# Altium integrated library National Semiconductor LDO.IntLib: 2675 symbols (part 54 of 65)
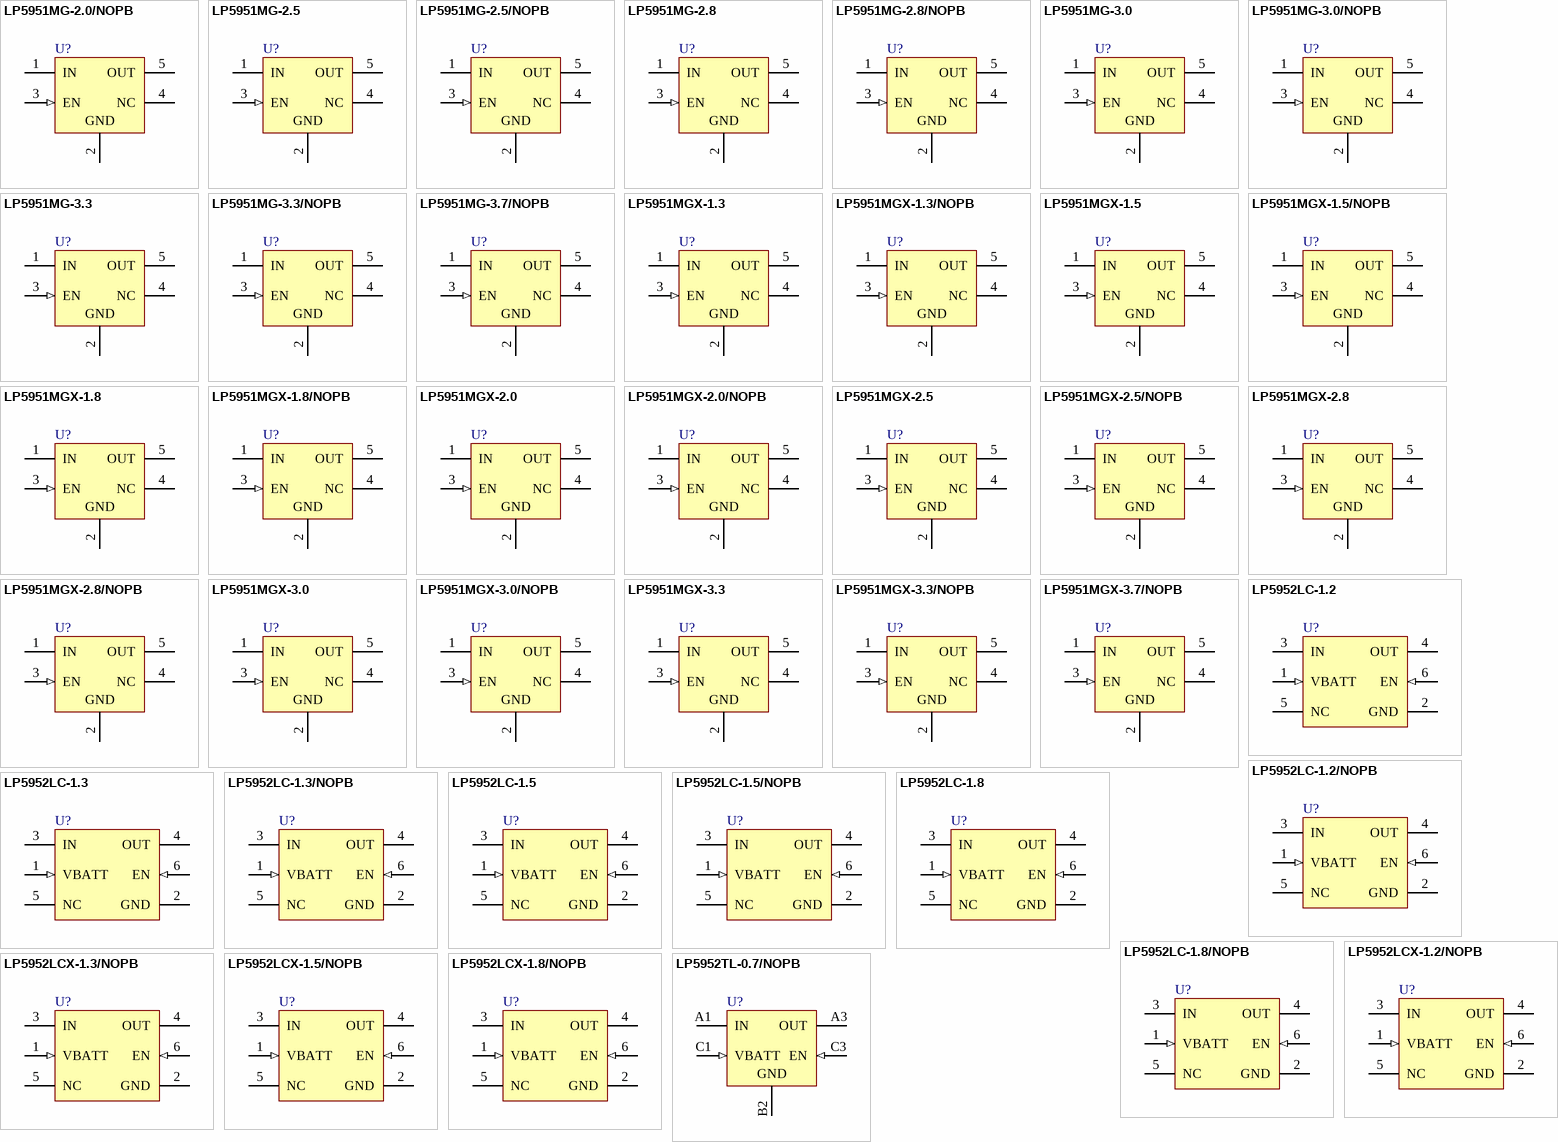
[diagram p120: symbols LP5951MG-2.0/NOPB to LP5952TL-0.7/NOPB]

## LP5951MGX-2.0/NOPB
designator U?
Micropower, 150mA Low-Dropout CMOS Voltage Regulator, 5-pin SC-70, Pb-Free; PartNumber: LP5951MGX-2.0/NOPB; Manufacturer: National Semiconductor; PackageTopMarking: L4B*XTT; PowerWise: N; CompType: LDO IC; High-Reliability: Y; DatasheetVersion: Jan-2011; PackageVersion: revD, Jun-2007; PackageReference: MAA05A; PackageDescription: Molded SC-70, 2 x 1.25 x .9mm, 5 Lead, 0.65mm Pitch; RoHS: Y; PinCount: 5; Code_JEITA: SC-88A; Code_JEDEC: MO-203-AA; Code_IPC: SOT353-5; ComponentLink1Description: Manufacturer URL; ComponentLink1URL: http://www.national.com/; ComponentLink2Description: LP5951 Datasheet; ComponentLink2URL: http://www.national.com/ds/LP/LP5951.pdf; ComponentLink3Description: LP5951 Web Page; ComponentLink3URL: http://www.national.com/pf/LP/LP5951.html; ComponentLink4Description: MAA05A Package Page; ComponentLink4URL: http://www.national.com/packaging/folders/maa05a.html
footprint MAA05A_N (SOT353, 5-Leads, Body 2x1.3mm, Pitch 0.65mm, Lead Span 2.1mm, IPC Medium Density)
footprint MAA05A_L (SOT353, 5-Leads, Body 2x1.3mm, Pitch 0.65mm, Lead Span 2.1mm, IPC High Density)
footprint MAA05A_M (SOT353, 5-Leads, Body 2x1.3mm, Pitch 0.65mm, Lead Span 2.1mm, IPC Low Density)
pins: 1 IN (power), 2 GND (power), 3 EN (in), 4 NC, 5 OUT (power)

## LP5951MGX-2.5
designator U?
Micropower, 150mA Low-Dropout CMOS Voltage Regulator, 5-pin SC-70; PartNumber: LP5951MGX-2.5; Manufacturer: National Semiconductor; PackageTopMarking: L5B*XTT; PowerWise: N; CompType: LDO IC; High-Reliability: Y; DatasheetVersion: Jan-2011; PackageVersion: revD, Jun-2007; PackageReference: MAA05A; PackageDescription: Molded SC-70, 2 x 1.25 x .9mm, 5 Lead, 0.65mm Pitch; RoHS: N; PinCount: 5; Code_JEITA: SC-88A; Code_JEDEC: MO-203-AA; Code_IPC: SOT353-5; ComponentLink1Description: Manufacturer URL; ComponentLink1URL: http://www.national.com/; ComponentLink2Description: LP5951 Datasheet; ComponentLink2URL: http://www.national.com/ds/LP/LP5951.pdf; ComponentLink3Description: LP5951 Web Page; ComponentLink3URL: http://www.national.com/pf/LP/LP5951.html; ComponentLink4Description: MAA05A Package Page; ComponentLink4URL: http://www.national.com/packaging/folders/maa05a.html
footprint MAA05A_N (SOT353, 5-Leads, Body 2x1.3mm, Pitch 0.65mm, Lead Span 2.1mm, IPC Medium Density)
footprint MAA05A_L (SOT353, 5-Leads, Body 2x1.3mm, Pitch 0.65mm, Lead Span 2.1mm, IPC High Density)
footprint MAA05A_M (SOT353, 5-Leads, Body 2x1.3mm, Pitch 0.65mm, Lead Span 2.1mm, IPC Low Density)
pins: 1 IN (power), 2 GND (power), 3 EN (in), 4 NC, 5 OUT (power)

## LP5951MGX-2.5/NOPB
designator U?
Micropower, 150mA Low-Dropout CMOS Voltage Regulator, 5-pin SC-70, Pb-Free; PartNumber: LP5951MGX-2.5/NOPB; Manufacturer: National Semiconductor; PackageTopMarking: L5B*XTT; PowerWise: N; CompType: LDO IC; High-Reliability: Y; DatasheetVersion: Jan-2011; PackageVersion: revD, Jun-2007; PackageReference: MAA05A; PackageDescription: Molded SC-70, 2 x 1.25 x .9mm, 5 Lead, 0.65mm Pitch; RoHS: Y; PinCount: 5; Code_JEITA: SC-88A; Code_JEDEC: MO-203-AA; Code_IPC: SOT353-5; ComponentLink1Description: Manufacturer URL; ComponentLink1URL: http://www.national.com/; ComponentLink2Description: LP5951 Datasheet; ComponentLink2URL: http://www.national.com/ds/LP/LP5951.pdf; ComponentLink3Description: LP5951 Web Page; ComponentLink3URL: http://www.national.com/pf/LP/LP5951.html; ComponentLink4Description: MAA05A Package Page; ComponentLink4URL: http://www.national.com/packaging/folders/maa05a.html
footprint MAA05A_N (SOT353, 5-Leads, Body 2x1.3mm, Pitch 0.65mm, Lead Span 2.1mm, IPC Medium Density)
footprint MAA05A_L (SOT353, 5-Leads, Body 2x1.3mm, Pitch 0.65mm, Lead Span 2.1mm, IPC High Density)
footprint MAA05A_M (SOT353, 5-Leads, Body 2x1.3mm, Pitch 0.65mm, Lead Span 2.1mm, IPC Low Density)
pins: 1 IN (power), 2 GND (power), 3 EN (in), 4 NC, 5 OUT (power)

## LP5951MGX-2.8
designator U?
Micropower, 150mA Low-Dropout CMOS Voltage Regulator, 5-pin SC-70; PartNumber: LP5951MGX-2.8; Manufacturer: National Semiconductor; PackageTopMarking: L6B*XTT; PowerWise: N; CompType: LDO IC; High-Reliability: Y; DatasheetVersion: Jan-2011; PackageVersion: revD, Jun-2007; PackageReference: MAA05A; PackageDescription: Molded SC-70, 2 x 1.25 x .9mm, 5 Lead, 0.65mm Pitch; RoHS: N; PinCount: 5; Code_JEITA: SC-88A; Code_JEDEC: MO-203-AA; Code_IPC: SOT353-5; ComponentLink1Description: Manufacturer URL; ComponentLink1URL: http://www.national.com/; ComponentLink2Description: LP5951 Datasheet; ComponentLink2URL: http://www.national.com/ds/LP/LP5951.pdf; ComponentLink3Description: LP5951 Web Page; ComponentLink3URL: http://www.national.com/pf/LP/LP5951.html; ComponentLink4Description: MAA05A Package Page; ComponentLink4URL: http://www.national.com/packaging/folders/maa05a.html
footprint MAA05A_N (SOT353, 5-Leads, Body 2x1.3mm, Pitch 0.65mm, Lead Span 2.1mm, IPC Medium Density)
footprint MAA05A_L (SOT353, 5-Leads, Body 2x1.3mm, Pitch 0.65mm, Lead Span 2.1mm, IPC High Density)
footprint MAA05A_M (SOT353, 5-Leads, Body 2x1.3mm, Pitch 0.65mm, Lead Span 2.1mm, IPC Low Density)
pins: 1 IN (power), 2 GND (power), 3 EN (in), 4 NC, 5 OUT (power)

## LP5951MGX-2.8/NOPB
designator U?
Micropower, 150mA Low-Dropout CMOS Voltage Regulator, 5-pin SC-70, Pb-Free; PartNumber: LP5951MGX-2.8/NOPB; Manufacturer: National Semiconductor; PackageTopMarking: L6B*XTT; PowerWise: N; CompType: LDO IC; High-Reliability: Y; DatasheetVersion: Jan-2011; PackageVersion: revD, Jun-2007; PackageReference: MAA05A; PackageDescription: Molded SC-70, 2 x 1.25 x .9mm, 5 Lead, 0.65mm Pitch; RoHS: Y; PinCount: 5; Code_JEITA: SC-88A; Code_JEDEC: MO-203-AA; Code_IPC: SOT353-5; ComponentLink1Description: Manufacturer URL; ComponentLink1URL: http://www.national.com/; ComponentLink2Description: LP5951 Datasheet; ComponentLink2URL: http://www.national.com/ds/LP/LP5951.pdf; ComponentLink3Description: LP5951 Web Page; ComponentLink3URL: http://www.national.com/pf/LP/LP5951.html; ComponentLink4Description: MAA05A Package Page; ComponentLink4URL: http://www.national.com/packaging/folders/maa05a.html
footprint MAA05A_N (SOT353, 5-Leads, Body 2x1.3mm, Pitch 0.65mm, Lead Span 2.1mm, IPC Medium Density)
footprint MAA05A_L (SOT353, 5-Leads, Body 2x1.3mm, Pitch 0.65mm, Lead Span 2.1mm, IPC High Density)
footprint MAA05A_M (SOT353, 5-Leads, Body 2x1.3mm, Pitch 0.65mm, Lead Span 2.1mm, IPC Low Density)
pins: 1 IN (power), 2 GND (power), 3 EN (in), 4 NC, 5 OUT (power)

## LP5951MGX-3.0
designator U?
Micropower, 150mA Low-Dropout CMOS Voltage Regulator, 5-pin SC-70; PartNumber: LP5951MGX-3.0; Manufacturer: National Semiconductor; PackageTopMarking: L7B*XTT; PowerWise: N; CompType: LDO IC; High-Reliability: Y; DatasheetVersion: Jan-2011; PackageVersion: revD, Jun-2007; PackageReference: MAA05A; PackageDescription: Molded SC-70, 2 x 1.25 x .9mm, 5 Lead, 0.65mm Pitch; RoHS: N; PinCount: 5; Code_JEITA: SC-88A; Code_JEDEC: MO-203-AA; Code_IPC: SOT353-5; ComponentLink1Description: Manufacturer URL; ComponentLink1URL: http://www.national.com/; ComponentLink2Description: LP5951 Datasheet; ComponentLink2URL: http://www.national.com/ds/LP/LP5951.pdf; ComponentLink3Description: LP5951 Web Page; ComponentLink3URL: http://www.national.com/pf/LP/LP5951.html; ComponentLink4Description: MAA05A Package Page; ComponentLink4URL: http://www.national.com/packaging/folders/maa05a.html
footprint MAA05A_N (SOT353, 5-Leads, Body 2x1.3mm, Pitch 0.65mm, Lead Span 2.1mm, IPC Medium Density)
footprint MAA05A_L (SOT353, 5-Leads, Body 2x1.3mm, Pitch 0.65mm, Lead Span 2.1mm, IPC High Density)
footprint MAA05A_M (SOT353, 5-Leads, Body 2x1.3mm, Pitch 0.65mm, Lead Span 2.1mm, IPC Low Density)
pins: 1 IN (power), 2 GND (power), 3 EN (in), 4 NC, 5 OUT (power)

## LP5951MGX-3.0/NOPB
designator U?
Micropower, 150mA Low-Dropout CMOS Voltage Regulator, 5-pin SC-70, Pb-Free; PartNumber: LP5951MGX-3.0/NOPB; Manufacturer: National Semiconductor; PackageTopMarking: L7B*XTT; PowerWise: N; CompType: LDO IC; High-Reliability: Y; DatasheetVersion: Jan-2011; PackageVersion: revD, Jun-2007; PackageReference: MAA05A; PackageDescription: Molded SC-70, 2 x 1.25 x .9mm, 5 Lead, 0.65mm Pitch; RoHS: Y; PinCount: 5; Code_JEITA: SC-88A; Code_JEDEC: MO-203-AA; Code_IPC: SOT353-5; ComponentLink1Description: Manufacturer URL; ComponentLink1URL: http://www.national.com/; ComponentLink2Description: LP5951 Datasheet; ComponentLink2URL: http://www.national.com/ds/LP/LP5951.pdf; ComponentLink3Description: LP5951 Web Page; ComponentLink3URL: http://www.national.com/pf/LP/LP5951.html; ComponentLink4Description: MAA05A Package Page; ComponentLink4URL: http://www.national.com/packaging/folders/maa05a.html
footprint MAA05A_N (SOT353, 5-Leads, Body 2x1.3mm, Pitch 0.65mm, Lead Span 2.1mm, IPC Medium Density)
footprint MAA05A_L (SOT353, 5-Leads, Body 2x1.3mm, Pitch 0.65mm, Lead Span 2.1mm, IPC High Density)
footprint MAA05A_M (SOT353, 5-Leads, Body 2x1.3mm, Pitch 0.65mm, Lead Span 2.1mm, IPC Low Density)
pins: 1 IN (power), 2 GND (power), 3 EN (in), 4 NC, 5 OUT (power)

## LP5951MGX-3.3
designator U?
Micropower, 150mA Low-Dropout CMOS Voltage Regulator, 5-pin SC-70; PartNumber: LP5951MGX-3.3; Manufacturer: National Semiconductor; PackageTopMarking: LAB*XTT; PowerWise: N; CompType: LDO IC; High-Reliability: Y; DatasheetVersion: Jan-2011; PackageVersion: revD, Jun-2007; PackageReference: MAA05A; PackageDescription: Molded SC-70, 2 x 1.25 x .9mm, 5 Lead, 0.65mm Pitch; RoHS: N; PinCount: 5; Code_JEITA: SC-88A; Code_JEDEC: MO-203-AA; Code_IPC: SOT353-5; ComponentLink1Description: Manufacturer URL; ComponentLink1URL: http://www.national.com/; ComponentLink2Description: LP5951 Datasheet; ComponentLink2URL: http://www.national.com/ds/LP/LP5951.pdf; ComponentLink3Description: LP5951 Web Page; ComponentLink3URL: http://www.national.com/pf/LP/LP5951.html; ComponentLink4Description: MAA05A Package Page; ComponentLink4URL: http://www.national.com/packaging/folders/maa05a.html
footprint MAA05A_N (SOT353, 5-Leads, Body 2x1.3mm, Pitch 0.65mm, Lead Span 2.1mm, IPC Medium Density)
footprint MAA05A_L (SOT353, 5-Leads, Body 2x1.3mm, Pitch 0.65mm, Lead Span 2.1mm, IPC High Density)
footprint MAA05A_M (SOT353, 5-Leads, Body 2x1.3mm, Pitch 0.65mm, Lead Span 2.1mm, IPC Low Density)
pins: 1 IN (power), 2 GND (power), 3 EN (in), 4 NC, 5 OUT (power)

## LP5951MGX-3.3/NOPB
designator U?
Micropower, 150mA Low-Dropout CMOS Voltage Regulator, 5-pin SC-70, Pb-Free; PartNumber: LP5951MGX-3.3/NOPB; Manufacturer: National Semiconductor; PackageTopMarking: LAB*XTT; PowerWise: N; CompType: LDO IC; High-Reliability: Y; DatasheetVersion: Jan-2011; PackageVersion: revD, Jun-2007; PackageReference: MAA05A; PackageDescription: Molded SC-70, 2 x 1.25 x .9mm, 5 Lead, 0.65mm Pitch; RoHS: Y; PinCount: 5; Code_JEITA: SC-88A; Code_JEDEC: MO-203-AA; Code_IPC: SOT353-5; ComponentLink1Description: Manufacturer URL; ComponentLink1URL: http://www.national.com/; ComponentLink2Description: LP5951 Datasheet; ComponentLink2URL: http://www.national.com/ds/LP/LP5951.pdf; ComponentLink3Description: LP5951 Web Page; ComponentLink3URL: http://www.national.com/pf/LP/LP5951.html; ComponentLink4Description: MAA05A Package Page; ComponentLink4URL: http://www.national.com/packaging/folders/maa05a.html
footprint MAA05A_N (SOT353, 5-Leads, Body 2x1.3mm, Pitch 0.65mm, Lead Span 2.1mm, IPC Medium Density)
footprint MAA05A_L (SOT353, 5-Leads, Body 2x1.3mm, Pitch 0.65mm, Lead Span 2.1mm, IPC High Density)
footprint MAA05A_M (SOT353, 5-Leads, Body 2x1.3mm, Pitch 0.65mm, Lead Span 2.1mm, IPC Low Density)
pins: 1 IN (power), 2 GND (power), 3 EN (in), 4 NC, 5 OUT (power)

## LP5951MGX-3.7/NOPB
designator U?
Micropower, 150mA Low-Dropout CMOS Voltage Regulator, 3.7V, 5-pin SC-70, Pb-Free, 3000 Tape and Reel; PartNumber: LP5951MGX-3.7/NOPB; Manufacturer: National Semiconductor; PackageTopMarking: L44*XTT; PowerWise: N; CompType: LDO IC; High-Reliability: Y; DatasheetVersion: Jan-2011; PackageVersion: revD, Jun-2007; PackageReference: MAA05A; PackageDescription: Molded SC-70, 2 x 1.25 x .9mm, 5 Lead, 0.65mm Pitch; RoHS: Y; PinCount: 5; Code_JEITA: SC-88A; Code_JEDEC: MO-203-AA; Code_IPC: SOT353-5; ComponentLink1Description: Manufacturer URL; ComponentLink1URL: http://www.national.com/; ComponentLink2Description: LP5951 Datasheet; ComponentLink2URL: http://www.national.com/ds/LP/LP5951.pdf; ComponentLink3Description: LP5951 Web Page; ComponentLink3URL: http://www.national.com/pf/LP/LP5951.html; ComponentLink4Description: MAA05A Package Page; ComponentLink4URL: http://www.national.com/packaging/folders/maa05a.html
footprint MAA05A_N (SOT353, 5-Leads, Body 2x1.3mm, Pitch 0.65mm, Lead Span 2.1mm, IPC Medium Density)
footprint MAA05A_L (SOT353, 5-Leads, Body 2x1.3mm, Pitch 0.65mm, Lead Span 2.1mm, IPC High Density)
footprint MAA05A_M (SOT353, 5-Leads, Body 2x1.3mm, Pitch 0.65mm, Lead Span 2.1mm, IPC Low Density)
pins: 1 IN (power), 2 GND (power), 3 EN (in), 4 NC, 5 OUT (power)

## LP5952LC-1.2
designator U?
350mA Dual Rail Linear Regulator, 6-pin LLP COL; PartNumber: LP5952LC-1.2; Manufacturer: National Semiconductor; PackageTopMarking: XTT*L28; PowerWise: Y; CompType: LDO IC; DatasheetVersion: Jun-2008; PackageVersion: revA, Oct-2006; PackageReference: LCA06B; PackageDescription: LLP, 2 x 2 x 0.6mm, 6 Lead, 0.5mm Pitch, No Pullback; RoHS: Y; PinCount: 6; High-Reliability: Y; ComponentLink1Description: Manufacturer URL; ComponentLink1URL: http://www.national.com/; ComponentLink2Description: LP5952 Datasheet; ComponentLink2URL: http://www.national.com/ds/LP/LP5952.pdf; ComponentLink3Description: LP5952 Web Page; ComponentLink3URL: http://www.national.com/pf/LP/LP5952.html; ComponentLink4Description: LCA06B Package Page; ComponentLink4URL: http://www.national.com/packaging/folders/lca06b.html
footprint LCA06B (SON, 6-Leads, Body 2x2mm, Pitch 0.5mm, NSC Recommended)
pins: 1 VBATT (in), 2 GND (power), 3 IN (power), 4 OUT (power), 5 NC, 6 EN (in)

## LP5952LC-1.2/NOPB
designator U?
350mA Dual Rail Linear Regulator, 6-pin LLP COL, Pb-Free; PartNumber: LP5952LC-1.2/NOPB; Manufacturer: National Semiconductor; PackageTopMarking: XTT*L28; PowerWise: Y; CompType: LDO IC; DatasheetVersion: Jun-2008; PackageVersion: revA, Oct-2006; PackageReference: LCA06B; PackageDescription: LLP, 2 x 2 x 0.6mm, 6 Lead, 0.5mm Pitch, No Pullback; RoHS: Y; PinCount: 6; High-Reliability: Y; ComponentLink1Description: Manufacturer URL; ComponentLink1URL: http://www.national.com/; ComponentLink2Description: LP5952 Datasheet; ComponentLink2URL: http://www.national.com/ds/LP/LP5952.pdf; ComponentLink3Description: LP5952 Web Page; ComponentLink3URL: http://www.national.com/pf/LP/LP5952.html; ComponentLink4Description: LCA06B Package Page; ComponentLink4URL: http://www.national.com/packaging/folders/lca06b.html
footprint LCA06B (SON, 6-Leads, Body 2x2mm, Pitch 0.5mm, NSC Recommended)
pins: 1 VBATT (in), 2 GND (power), 3 IN (power), 4 OUT (power), 5 NC, 6 EN (in)

## LP5952LC-1.3
designator U?
350mA Dual Rail Linear Regulator, 6-pin LLP COL; PartNumber: LP5952LC-1.3; Manufacturer: National Semiconductor; PackageTopMarking: XTT*L43; PowerWise: Y; CompType: LDO IC; DatasheetVersion: Jun-2008; PackageVersion: revA, Oct-2006; PackageReference: LCA06B; PackageDescription: LLP, 2 x 2 x 0.6mm, 6 Lead, 0.5mm Pitch, No Pullback; RoHS: Y; PinCount: 6; High-Reliability: Y; ComponentLink1Description: Manufacturer URL; ComponentLink1URL: http://www.national.com/; ComponentLink2Description: LP5952 Datasheet; ComponentLink2URL: http://www.national.com/ds/LP/LP5952.pdf; ComponentLink3Description: LP5952 Web Page; ComponentLink3URL: http://www.national.com/pf/LP/LP5952.html; ComponentLink4Description: LCA06B Package Page; ComponentLink4URL: http://www.national.com/packaging/folders/lca06b.html
footprint LCA06B (SON, 6-Leads, Body 2x2mm, Pitch 0.5mm, NSC Recommended)
pins: 1 VBATT (in), 2 GND (power), 3 IN (power), 4 OUT (power), 5 NC, 6 EN (in)

## LP5952LC-1.3/NOPB
designator U?
350mA Dual Rail Linear Regulator, 6-pin LLP COL, Pb-Free; PartNumber: LP5952LC-1.3/NOPB; Manufacturer: National Semiconductor; PackageTopMarking: XTT*L43; PowerWise: Y; CompType: LDO IC; DatasheetVersion: Jun-2008; PackageVersion: revA, Oct-2006; PackageReference: LCA06B; PackageDescription: LLP, 2 x 2 x 0.6mm, 6 Lead, 0.5mm Pitch, No Pullback; RoHS: Y; PinCount: 6; High-Reliability: Y; ComponentLink1Description: Manufacturer URL; ComponentLink1URL: http://www.national.com/; ComponentLink2Description: LP5952 Datasheet; ComponentLink2URL: http://www.national.com/ds/LP/LP5952.pdf; ComponentLink3Description: LP5952 Web Page; ComponentLink3URL: http://www.national.com/pf/LP/LP5952.html; ComponentLink4Description: LCA06B Package Page; ComponentLink4URL: http://www.national.com/packaging/folders/lca06b.html
footprint LCA06B (SON, 6-Leads, Body 2x2mm, Pitch 0.5mm, NSC Recommended)
pins: 1 VBATT (in), 2 GND (power), 3 IN (power), 4 OUT (power), 5 NC, 6 EN (in)

## LP5952LC-1.5
designator U?
350mA Dual Rail Linear Regulator, 6-pin LLP COL; PartNumber: LP5952LC-1.5; Manufacturer: National Semiconductor; PackageTopMarking: XTT*L25; PowerWise: Y; CompType: LDO IC; DatasheetVersion: Jun-2008; PackageVersion: revA, Oct-2006; PackageReference: LCA06B; PackageDescription: LLP, 2 x 2 x 0.6mm, 6 Lead, 0.5mm Pitch, No Pullback; RoHS: Y; PinCount: 6; High-Reliability: Y; ComponentLink1Description: Manufacturer URL; ComponentLink1URL: http://www.national.com/; ComponentLink2Description: LP5952 Datasheet; ComponentLink2URL: http://www.national.com/ds/LP/LP5952.pdf; ComponentLink3Description: LP5952 Web Page; ComponentLink3URL: http://www.national.com/pf/LP/LP5952.html; ComponentLink4Description: LCA06B Package Page; ComponentLink4URL: http://www.national.com/packaging/folders/lca06b.html
footprint LCA06B (SON, 6-Leads, Body 2x2mm, Pitch 0.5mm, NSC Recommended)
pins: 1 VBATT (in), 2 GND (power), 3 IN (power), 4 OUT (power), 5 NC, 6 EN (in)

## LP5952LC-1.5/NOPB
designator U?
350mA Dual Rail Linear Regulator, 6-pin LLP COL, Pb-Free; PartNumber: LP5952LC-1.5/NOPB; Manufacturer: National Semiconductor; PackageTopMarking: XTT*L25; PowerWise: Y; CompType: LDO IC; DatasheetVersion: Jun-2008; PackageVersion: revA, Oct-2006; PackageReference: LCA06B; PackageDescription: LLP, 2 x 2 x 0.6mm, 6 Lead, 0.5mm Pitch, No Pullback; RoHS: Y; PinCount: 6; High-Reliability: Y; ComponentLink1Description: Manufacturer URL; ComponentLink1URL: http://www.national.com/; ComponentLink2Description: LP5952 Datasheet; ComponentLink2URL: http://www.national.com/ds/LP/LP5952.pdf; ComponentLink3Description: LP5952 Web Page; ComponentLink3URL: http://www.national.com/pf/LP/LP5952.html; ComponentLink4Description: LCA06B Package Page; ComponentLink4URL: http://www.national.com/packaging/folders/lca06b.html
footprint LCA06B (SON, 6-Leads, Body 2x2mm, Pitch 0.5mm, NSC Recommended)
pins: 1 VBATT (in), 2 GND (power), 3 IN (power), 4 OUT (power), 5 NC, 6 EN (in)

## LP5952LC-1.8
designator U?
350mA Dual Rail Linear Regulator, 6-pin LLP COL; PartNumber: LP5952LC-1.8; Manufacturer: National Semiconductor; PackageTopMarking: XTT*L29; PowerWise: Y; CompType: LDO IC; DatasheetVersion: Jun-2008; PackageVersion: revA, Oct-2006; PackageReference: LCA06B; PackageDescription: LLP, 2 x 2 x 0.6mm, 6 Lead, 0.5mm Pitch, No Pullback; RoHS: Y; PinCount: 6; High-Reliability: Y; ComponentLink1Description: Manufacturer URL; ComponentLink1URL: http://www.national.com/; ComponentLink2Description: LP5952 Datasheet; ComponentLink2URL: http://www.national.com/ds/LP/LP5952.pdf; ComponentLink3Description: LP5952 Web Page; ComponentLink3URL: http://www.national.com/pf/LP/LP5952.html; ComponentLink4Description: LCA06B Package Page; ComponentLink4URL: http://www.national.com/packaging/folders/lca06b.html
footprint LCA06B (SON, 6-Leads, Body 2x2mm, Pitch 0.5mm, NSC Recommended)
pins: 1 VBATT (in), 2 GND (power), 3 IN (power), 4 OUT (power), 5 NC, 6 EN (in)

## LP5952LC-1.8/NOPB
designator U?
350mA Dual Rail Linear Regulator, 6-pin LLP COL, Pb-Free; PartNumber: LP5952LC-1.8/NOPB; Manufacturer: National Semiconductor; PackageTopMarking: XTT*L29; PowerWise: Y; CompType: LDO IC; DatasheetVersion: Jun-2008; PackageVersion: revA, Oct-2006; PackageReference: LCA06B; PackageDescription: LLP, 2 x 2 x 0.6mm, 6 Lead, 0.5mm Pitch, No Pullback; RoHS: Y; PinCount: 6; High-Reliability: Y; ComponentLink1Description: Manufacturer URL; ComponentLink1URL: http://www.national.com/; ComponentLink2Description: LP5952 Datasheet; ComponentLink2URL: http://www.national.com/ds/LP/LP5952.pdf; ComponentLink3Description: LP5952 Web Page; ComponentLink3URL: http://www.national.com/pf/LP/LP5952.html; ComponentLink4Description: LCA06B Package Page; ComponentLink4URL: http://www.national.com/packaging/folders/lca06b.html
footprint LCA06B (SON, 6-Leads, Body 2x2mm, Pitch 0.5mm, NSC Recommended)
pins: 1 VBATT (in), 2 GND (power), 3 IN (power), 4 OUT (power), 5 NC, 6 EN (in)

## LP5952LCX-1.2/NOPB
designator U?
350mA Dual Rail Linear Regulator, 6-pin LLP COL, Pb-Free; PartNumber: LP5952LCX-1.2/NOPB; Manufacturer: National Semiconductor; PackageTopMarking: XTT*L28; PowerWise: Y; CompType: LDO IC; DatasheetVersion: Jun-2008; PackageVersion: revA, Oct-2006; PackageReference: LCA06B; PackageDescription: LLP, 2 x 2 x 0.6mm, 6 Lead, 0.5mm Pitch, No Pullback; RoHS: Y; PinCount: 6; High-Reliability: Y; ComponentLink1Description: Manufacturer URL; ComponentLink1URL: http://www.national.com/; ComponentLink2Description: LP5952 Datasheet; ComponentLink2URL: http://www.national.com/ds/LP/LP5952.pdf; ComponentLink3Description: LP5952 Web Page; ComponentLink3URL: http://www.national.com/pf/LP/LP5952.html; ComponentLink4Description: LCA06B Package Page; ComponentLink4URL: http://www.national.com/packaging/folders/lca06b.html
footprint LCA06B (SON, 6-Leads, Body 2x2mm, Pitch 0.5mm, NSC Recommended)
pins: 1 VBATT (in), 2 GND (power), 3 IN (power), 4 OUT (power), 5 NC, 6 EN (in)

## LP5952LCX-1.3/NOPB
designator U?
350mA Dual Rail Linear Regulator, 6-pin LLP COL, Pb-Free; PartNumber: LP5952LCX-1.3/NOPB; Manufacturer: National Semiconductor; PackageTopMarking: XTT*L43; PowerWise: Y; CompType: LDO IC; DatasheetVersion: Jun-2008; PackageVersion: revA, Oct-2006; PackageReference: LCA06B; PackageDescription: LLP, 2 x 2 x 0.6mm, 6 Lead, 0.5mm Pitch, No Pullback; RoHS: Y; PinCount: 6; High-Reliability: Y; ComponentLink1Description: Manufacturer URL; ComponentLink1URL: http://www.national.com/; ComponentLink2Description: LP5952 Datasheet; ComponentLink2URL: http://www.national.com/ds/LP/LP5952.pdf; ComponentLink3Description: LP5952 Web Page; ComponentLink3URL: http://www.national.com/pf/LP/LP5952.html; ComponentLink4Description: LCA06B Package Page; ComponentLink4URL: http://www.national.com/packaging/folders/lca06b.html
footprint LCA06B (SON, 6-Leads, Body 2x2mm, Pitch 0.5mm, NSC Recommended)
pins: 1 VBATT (in), 2 GND (power), 3 IN (power), 4 OUT (power), 5 NC, 6 EN (in)

## LP5952LCX-1.5/NOPB
designator U?
350mA Dual Rail Linear Regulator, 6-pin LLP COL, Pb-Free; PartNumber: LP5952LCX-1.5/NOPB; Manufacturer: National Semiconductor; PackageTopMarking: XTT*L25; PowerWise: Y; CompType: LDO IC; DatasheetVersion: Jun-2008; PackageVersion: revA, Oct-2006; PackageReference: LCA06B; PackageDescription: LLP, 2 x 2 x 0.6mm, 6 Lead, 0.5mm Pitch, No Pullback; RoHS: Y; PinCount: 6; High-Reliability: Y; ComponentLink1Description: Manufacturer URL; ComponentLink1URL: http://www.national.com/; ComponentLink2Description: LP5952 Datasheet; ComponentLink2URL: http://www.national.com/ds/LP/LP5952.pdf; ComponentLink3Description: LP5952 Web Page; ComponentLink3URL: http://www.national.com/pf/LP/LP5952.html; ComponentLink4Description: LCA06B Package Page; ComponentLink4URL: http://www.national.com/packaging/folders/lca06b.html
footprint LCA06B (SON, 6-Leads, Body 2x2mm, Pitch 0.5mm, NSC Recommended)
pins: 1 VBATT (in), 2 GND (power), 3 IN (power), 4 OUT (power), 5 NC, 6 EN (in)

## LP5952LCX-1.8/NOPB
designator U?
350mA Dual Rail Linear Regulator, 6-pin LLP COL, Pb-Free; PartNumber: LP5952LCX-1.8/NOPB; Manufacturer: National Semiconductor; PackageTopMarking: XTT*L29; PowerWise: Y; CompType: LDO IC; DatasheetVersion: Jun-2008; PackageVersion: revA, Oct-2006; PackageReference: LCA06B; PackageDescription: LLP, 2 x 2 x 0.6mm, 6 Lead, 0.5mm Pitch, No Pullback; RoHS: Y; PinCount: 6; High-Reliability: Y; ComponentLink1Description: Manufacturer URL; ComponentLink1URL: http://www.national.com/; ComponentLink2Description: LP5952 Datasheet; ComponentLink2URL: http://www.national.com/ds/LP/LP5952.pdf; ComponentLink3Description: LP5952 Web Page; ComponentLink3URL: http://www.national.com/pf/LP/LP5952.html; ComponentLink4Description: LCA06B Package Page; ComponentLink4URL: http://www.national.com/packaging/folders/lca06b.html
footprint LCA06B (SON, 6-Leads, Body 2x2mm, Pitch 0.5mm, NSC Recommended)
pins: 1 VBATT (in), 2 GND (power), 3 IN (power), 4 OUT (power), 5 NC, 6 EN (in)

## LP5952TL-0.7/NOPB
designator U?
350mA Dual Rail Linear Regulator, 5-pin Micro SMD, Pb-Free; PartNumber: LP5952TL-0.7/NOPB; Manufacturer: National Semiconductor; PackageTopMarking: XV*I 4; PowerWise: Y; CompType: LDO IC; DatasheetVersion: Jun-2008; PackageVersion: revC, Feb-2005; PackageReference: TLA05Z1A; PackageDescription: Thin Micro SMD, 5 Bump (Large), 0.5mm Pitch; RoHS: Y; PinCount: 5; High-Reliability: Y; ComponentLink1Description: Manufacturer URL; ComponentLink1URL: http://www.national.com/; ComponentLink2Description: LP5952 Datasheet; ComponentLink2URL: http://www.national.com/ds/LP/LP5952.pdf; ComponentLink3Description: LP5952 Web Page; ComponentLink3URL: http://www.national.com/pf/LP/LP5952.html; ComponentLink4Description: TLA05Z1A Package Page; ComponentLink4URL: http://www.national.com/packaging/folders/tla05z1a.html
footprint TLA05Z1A (Micro SMD, 5-Leads, Body 1.34x0.96mm, Pitch 0.5mm, NSC Recommended)
pins: A1 IN (power), A3 OUT (power), B2 GND (power), C1 VBATT (in), C3 EN (in)

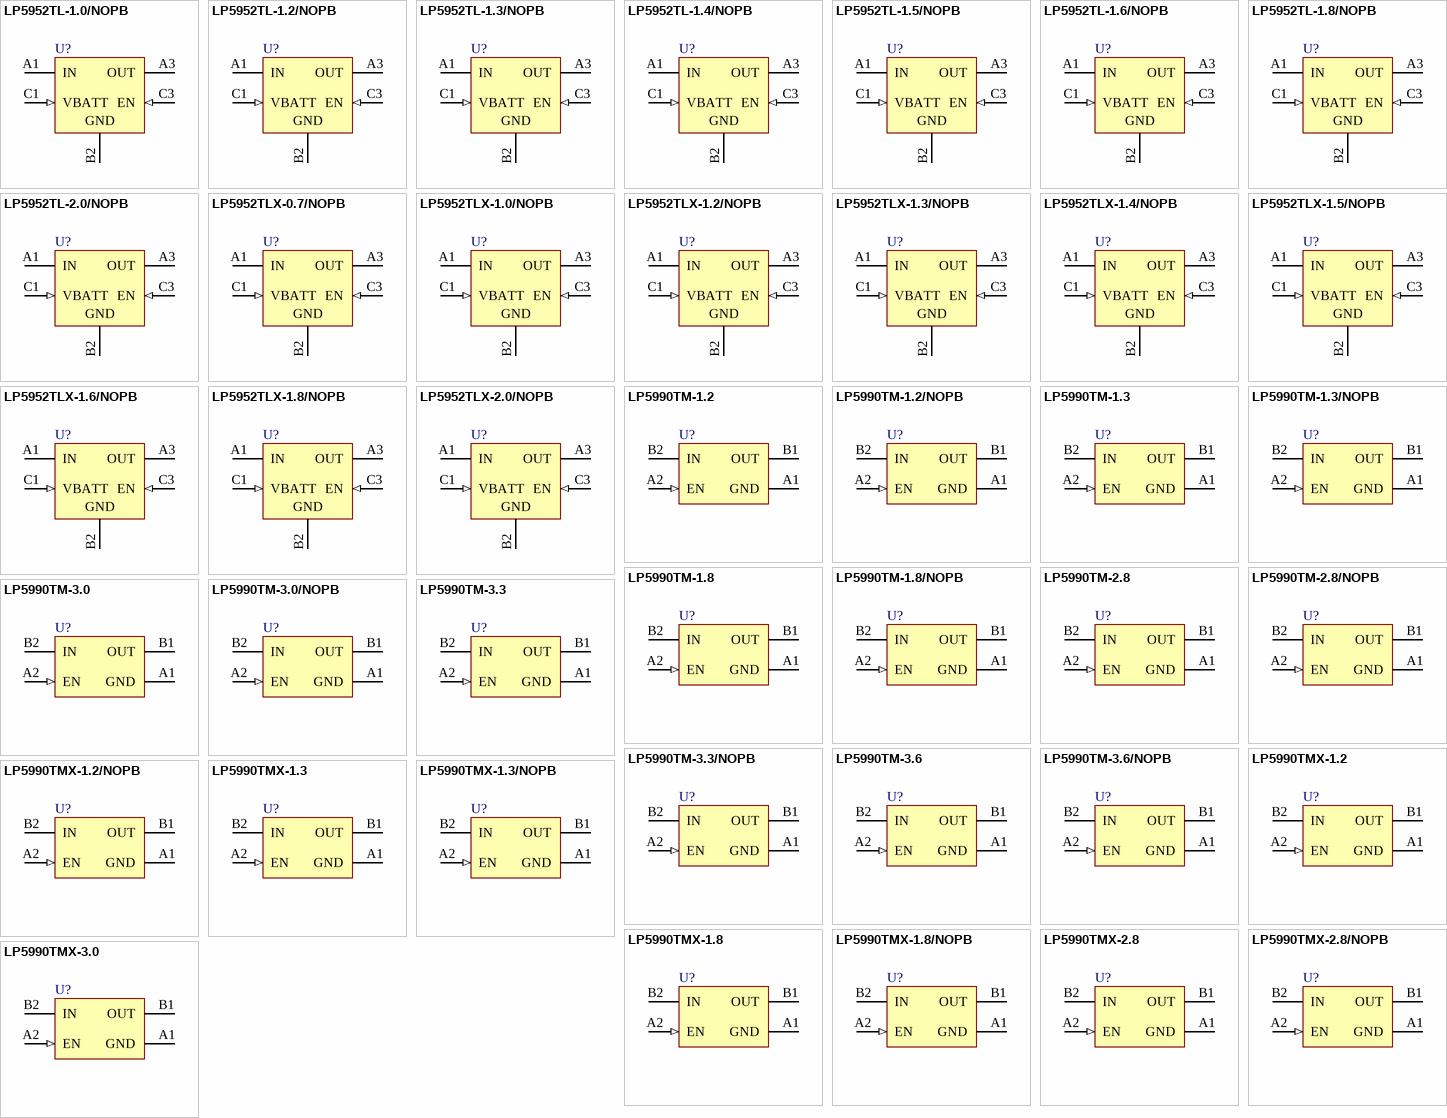
[diagram p56: symbols LP5952TL-1.0/NOPB to LP5990TMX-3.0]

## LP5952TL-1.0/NOPB
designator U?
350mA Dual Rail Linear Regulator, 5-pin Micro SMD, Pb-Free; PartNumber: LP5952TL-1.0/NOPB; Manufacturer: National Semiconductor; PackageTopMarking: XV*I L; PowerWise: Y; CompType: LDO IC; DatasheetVersion: Jun-2008; PackageVersion: revC, Feb-2005; PackageReference: TLA05Z1A; PackageDescription: Thin Micro SMD, 5 Bump (Large), 0.5mm Pitch; RoHS: Y; PinCount: 5; High-Reliability: Y; ComponentLink1Description: Manufacturer URL; ComponentLink1URL: http://www.national.com/; ComponentLink2Description: LP5952 Datasheet; ComponentLink2URL: http://www.national.com/ds/LP/LP5952.pdf; ComponentLink3Description: LP5952 Web Page; ComponentLink3URL: http://www.national.com/pf/LP/LP5952.html; ComponentLink4Description: TLA05Z1A Package Page; ComponentLink4URL: http://www.national.com/packaging/folders/tla05z1a.html
footprint TLA05Z1A (Micro SMD, 5-Leads, Body 1.34x0.96mm, Pitch 0.5mm, NSC Recommended)
pins: A1 IN (power), A3 OUT (power), B2 GND (power), C1 VBATT (in), C3 EN (in)

## LP5952TL-1.2/NOPB
designator U?
350mA Dual Rail Linear Regulator, 5-pin Micro SMD, Pb-Free; PartNumber: LP5952TL-1.2/NOPB; Manufacturer: National Semiconductor; PackageTopMarking: XV*I 7; PowerWise: Y; CompType: LDO IC; DatasheetVersion: Jun-2008; PackageVersion: revC, Feb-2005; PackageReference: TLA05Z1A; PackageDescription: Thin Micro SMD, 5 Bump (Large), 0.5mm Pitch; RoHS: Y; PinCount: 5; High-Reliability: Y; ComponentLink1Description: Manufacturer URL; ComponentLink1URL: http://www.national.com/; ComponentLink2Description: LP5952 Datasheet; ComponentLink2URL: http://www.national.com/ds/LP/LP5952.pdf; ComponentLink3Description: LP5952 Web Page; ComponentLink3URL: http://www.national.com/pf/LP/LP5952.html; ComponentLink4Description: TLA05Z1A Package Page; ComponentLink4URL: http://www.national.com/packaging/folders/tla05z1a.html
footprint TLA05Z1A (Micro SMD, 5-Leads, Body 1.34x0.96mm, Pitch 0.5mm, NSC Recommended)
pins: A1 IN (power), A3 OUT (power), B2 GND (power), C1 VBATT (in), C3 EN (in)

## LP5952TL-1.3/NOPB
designator U?
350mA Dual Rail Linear Regulator, 5-pin Micro SMD, Pb-Free; PartNumber: LP5952TL-1.3/NOPB; Manufacturer: National Semiconductor; PackageTopMarking: XV*I U; PowerWise: Y; CompType: LDO IC; DatasheetVersion: Jun-2008; PackageVersion: revC, Feb-2005; PackageReference: TLA05Z1A; PackageDescription: Thin Micro SMD, 5 Bump (Large), 0.5mm Pitch; RoHS: Y; PinCount: 5; High-Reliability: Y; ComponentLink1Description: Manufacturer URL; ComponentLink1URL: http://www.national.com/; ComponentLink2Description: LP5952 Datasheet; ComponentLink2URL: http://www.national.com/ds/LP/LP5952.pdf; ComponentLink3Description: LP5952 Web Page; ComponentLink3URL: http://www.national.com/pf/LP/LP5952.html; ComponentLink4Description: TLA05Z1A Package Page; ComponentLink4URL: http://www.national.com/packaging/folders/tla05z1a.html
footprint TLA05Z1A (Micro SMD, 5-Leads, Body 1.34x0.96mm, Pitch 0.5mm, NSC Recommended)
pins: A1 IN (power), A3 OUT (power), B2 GND (power), C1 VBATT (in), C3 EN (in)

## LP5952TL-1.4/NOPB
designator U?
350mA Dual Rail Linear Regulator, 5-pin Micro SMD, Pb-Free; PartNumber: LP5952TL-1.4/NOPB; Manufacturer: National Semiconductor; PackageTopMarking: XV*I A; PowerWise: Y; CompType: LDO IC; DatasheetVersion: Jun-2008; PackageVersion: revC, Feb-2005; PackageReference: TLA05Z1A; PackageDescription: Thin Micro SMD, 5 Bump (Large), 0.5mm Pitch; RoHS: Y; PinCount: 5; High-Reliability: Y; ComponentLink1Description: Manufacturer URL; ComponentLink1URL: http://www.national.com/; ComponentLink2Description: LP5952 Datasheet; ComponentLink2URL: http://www.national.com/ds/LP/LP5952.pdf; ComponentLink3Description: LP5952 Web Page; ComponentLink3URL: http://www.national.com/pf/LP/LP5952.html; ComponentLink4Description: TLA05Z1A Package Page; ComponentLink4URL: http://www.national.com/packaging/folders/tla05z1a.html
footprint TLA05Z1A (Micro SMD, 5-Leads, Body 1.34x0.96mm, Pitch 0.5mm, NSC Recommended)
pins: A1 IN (power), A3 OUT (power), B2 GND (power), C1 VBATT (in), C3 EN (in)

## LP5952TL-1.5/NOPB
designator U?
350mA Dual Rail Linear Regulator, 5-pin Micro SMD, Pb-Free; PartNumber: LP5952TL-1.5/NOPB; Manufacturer: National Semiconductor; PackageTopMarking: XV*I T; PowerWise: Y; CompType: LDO IC; DatasheetVersion: Jun-2008; PackageVersion: revC, Feb-2005; PackageReference: TLA05Z1A; PackageDescription: Thin Micro SMD, 5 Bump (Large), 0.5mm Pitch; RoHS: Y; PinCount: 5; High-Reliability: Y; ComponentLink1Description: Manufacturer URL; ComponentLink1URL: http://www.national.com/; ComponentLink2Description: LP5952 Datasheet; ComponentLink2URL: http://www.national.com/ds/LP/LP5952.pdf; ComponentLink3Description: LP5952 Web Page; ComponentLink3URL: http://www.national.com/pf/LP/LP5952.html; ComponentLink4Description: TLA05Z1A Package Page; ComponentLink4URL: http://www.national.com/packaging/folders/tla05z1a.html
footprint TLA05Z1A (Micro SMD, 5-Leads, Body 1.34x0.96mm, Pitch 0.5mm, NSC Recommended)
pins: A1 IN (power), A3 OUT (power), B2 GND (power), C1 VBATT (in), C3 EN (in)

## LP5952TL-1.6/NOPB
designator U?
350mA Dual Rail Linear Regulator, 5-pin Micro SMD, Pb-Free; PartNumber: LP5952TL-1.6/NOPB; Manufacturer: National Semiconductor; PackageTopMarking: XV*I B; PowerWise: Y; CompType: LDO IC; DatasheetVersion: Jun-2008; PackageVersion: revC, Feb-2005; PackageReference: TLA05Z1A; PackageDescription: Thin Micro SMD, 5 Bump (Large), 0.5mm Pitch; RoHS: Y; PinCount: 5; High-Reliability: Y; ComponentLink1Description: Manufacturer URL; ComponentLink1URL: http://www.national.com/; ComponentLink2Description: LP5952 Datasheet; ComponentLink2URL: http://www.national.com/ds/LP/LP5952.pdf; ComponentLink3Description: LP5952 Web Page; ComponentLink3URL: http://www.national.com/pf/LP/LP5952.html; ComponentLink4Description: TLA05Z1A Package Page; ComponentLink4URL: http://www.national.com/packaging/folders/tla05z1a.html
footprint TLA05Z1A (Micro SMD, 5-Leads, Body 1.34x0.96mm, Pitch 0.5mm, NSC Recommended)
pins: A1 IN (power), A3 OUT (power), B2 GND (power), C1 VBATT (in), C3 EN (in)

## LP5952TL-1.8/NOPB
designator U?
350mA Dual Rail Linear Regulator, 5-pin Micro SMD, Pb-Free; PartNumber: LP5952TL-1.8/NOPB; Manufacturer: National Semiconductor; PackageTopMarking: XV*I 8; PowerWise: Y; CompType: LDO IC; DatasheetVersion: Jun-2008; PackageVersion: revC, Feb-2005; PackageReference: TLA05Z1A; PackageDescription: Thin Micro SMD, 5 Bump (Large), 0.5mm Pitch; RoHS: Y; PinCount: 5; High-Reliability: Y; ComponentLink1Description: Manufacturer URL; ComponentLink1URL: http://www.national.com/; ComponentLink2Description: LP5952 Datasheet; ComponentLink2URL: http://www.national.com/ds/LP/LP5952.pdf; ComponentLink3Description: LP5952 Web Page; ComponentLink3URL: http://www.national.com/pf/LP/LP5952.html; ComponentLink4Description: TLA05Z1A Package Page; ComponentLink4URL: http://www.national.com/packaging/folders/tla05z1a.html
footprint TLA05Z1A (Micro SMD, 5-Leads, Body 1.34x0.96mm, Pitch 0.5mm, NSC Recommended)
pins: A1 IN (power), A3 OUT (power), B2 GND (power), C1 VBATT (in), C3 EN (in)

## LP5952TL-2.0/NOPB
designator U?
350mA Dual Rail Linear Regulator, 5-pin Micro SMD, Pb-Free; PartNumber: LP5952TL-2.0/NOPB; Manufacturer: National Semiconductor; PackageTopMarking: XV*I 5; PowerWise: Y; CompType: LDO IC; DatasheetVersion: Jun-2008; PackageVersion: revC, Feb-2005; PackageReference: TLA05Z1A; PackageDescription: Thin Micro SMD, 5 Bump (Large), 0.5mm Pitch; RoHS: Y; PinCount: 5; High-Reliability: Y; ComponentLink1Description: Manufacturer URL; ComponentLink1URL: http://www.national.com/; ComponentLink2Description: LP5952 Datasheet; ComponentLink2URL: http://www.national.com/ds/LP/LP5952.pdf; ComponentLink3Description: LP5952 Web Page; ComponentLink3URL: http://www.national.com/pf/LP/LP5952.html; ComponentLink4Description: TLA05Z1A Package Page; ComponentLink4URL: http://www.national.com/packaging/folders/tla05z1a.html
footprint TLA05Z1A (Micro SMD, 5-Leads, Body 1.34x0.96mm, Pitch 0.5mm, NSC Recommended)
pins: A1 IN (power), A3 OUT (power), B2 GND (power), C1 VBATT (in), C3 EN (in)

## LP5952TLX-0.7/NOPB
designator U?
350mA Dual Rail Linear Regulator, 5-pin Micro SMD, Pb-Free; PartNumber: LP5952TLX-0.7/NOPB; Manufacturer: National Semiconductor; PackageTopMarking: XV*I 4; PowerWise: Y; CompType: LDO IC; DatasheetVersion: Jun-2008; PackageVersion: revC, Feb-2005; PackageReference: TLA05Z1A; PackageDescription: Thin Micro SMD, 5 Bump (Large), 0.5mm Pitch; RoHS: Y; PinCount: 5; High-Reliability: Y; ComponentLink1Description: Manufacturer URL; ComponentLink1URL: http://www.national.com/; ComponentLink2Description: LP5952 Datasheet; ComponentLink2URL: http://www.national.com/ds/LP/LP5952.pdf; ComponentLink3Description: LP5952 Web Page; ComponentLink3URL: http://www.national.com/pf/LP/LP5952.html; ComponentLink4Description: TLA05Z1A Package Page; ComponentLink4URL: http://www.national.com/packaging/folders/tla05z1a.html
footprint TLA05Z1A (Micro SMD, 5-Leads, Body 1.34x0.96mm, Pitch 0.5mm, NSC Recommended)
pins: A1 IN (power), A3 OUT (power), B2 GND (power), C1 VBATT (in), C3 EN (in)

## LP5952TLX-1.0/NOPB
designator U?
350mA Dual Rail Linear Regulator, 5-pin Micro SMD, Pb-Free; PartNumber: LP5952TLX-1.0/NOPB; Manufacturer: National Semiconductor; PackageTopMarking: XV*I L; PowerWise: Y; CompType: LDO IC; DatasheetVersion: Jun-2008; PackageVersion: revC, Feb-2005; PackageReference: TLA05Z1A; PackageDescription: Thin Micro SMD, 5 Bump (Large), 0.5mm Pitch; RoHS: Y; PinCount: 5; High-Reliability: Y; ComponentLink1Description: Manufacturer URL; ComponentLink1URL: http://www.national.com/; ComponentLink2Description: LP5952 Datasheet; ComponentLink2URL: http://www.national.com/ds/LP/LP5952.pdf; ComponentLink3Description: LP5952 Web Page; ComponentLink3URL: http://www.national.com/pf/LP/LP5952.html; ComponentLink4Description: TLA05Z1A Package Page; ComponentLink4URL: http://www.national.com/packaging/folders/tla05z1a.html
footprint TLA05Z1A (Micro SMD, 5-Leads, Body 1.34x0.96mm, Pitch 0.5mm, NSC Recommended)
pins: A1 IN (power), A3 OUT (power), B2 GND (power), C1 VBATT (in), C3 EN (in)

## LP5952TLX-1.2/NOPB
designator U?
350mA Dual Rail Linear Regulator, 5-pin Micro SMD, Pb-Free; PartNumber: LP5952TLX-1.2/NOPB; Manufacturer: National Semiconductor; PackageTopMarking: XV*I 7; PowerWise: Y; CompType: LDO IC; DatasheetVersion: Jun-2008; PackageVersion: revC, Feb-2005; PackageReference: TLA05Z1A; PackageDescription: Thin Micro SMD, 5 Bump (Large), 0.5mm Pitch; RoHS: Y; PinCount: 5; High-Reliability: Y; ComponentLink1Description: Manufacturer URL; ComponentLink1URL: http://www.national.com/; ComponentLink2Description: LP5952 Datasheet; ComponentLink2URL: http://www.national.com/ds/LP/LP5952.pdf; ComponentLink3Description: LP5952 Web Page; ComponentLink3URL: http://www.national.com/pf/LP/LP5952.html; ComponentLink4Description: TLA05Z1A Package Page; ComponentLink4URL: http://www.national.com/packaging/folders/tla05z1a.html
footprint TLA05Z1A (Micro SMD, 5-Leads, Body 1.34x0.96mm, Pitch 0.5mm, NSC Recommended)
pins: A1 IN (power), A3 OUT (power), B2 GND (power), C1 VBATT (in), C3 EN (in)

## LP5952TLX-1.3/NOPB
designator U?
350mA Dual Rail Linear Regulator, 5-pin Micro SMD, Pb-Free; PartNumber: LP5952TLX-1.3/NOPB; Manufacturer: National Semiconductor; PackageTopMarking: XV*I U; PowerWise: Y; CompType: LDO IC; DatasheetVersion: Jun-2008; PackageVersion: revC, Feb-2005; PackageReference: TLA05Z1A; PackageDescription: Thin Micro SMD, 5 Bump (Large), 0.5mm Pitch; RoHS: Y; PinCount: 5; High-Reliability: Y; ComponentLink1Description: Manufacturer URL; ComponentLink1URL: http://www.national.com/; ComponentLink2Description: LP5952 Datasheet; ComponentLink2URL: http://www.national.com/ds/LP/LP5952.pdf; ComponentLink3Description: LP5952 Web Page; ComponentLink3URL: http://www.national.com/pf/LP/LP5952.html; ComponentLink4Description: TLA05Z1A Package Page; ComponentLink4URL: http://www.national.com/packaging/folders/tla05z1a.html
footprint TLA05Z1A (Micro SMD, 5-Leads, Body 1.34x0.96mm, Pitch 0.5mm, NSC Recommended)
pins: A1 IN (power), A3 OUT (power), B2 GND (power), C1 VBATT (in), C3 EN (in)

## LP5952TLX-1.4/NOPB
designator U?
350mA Dual Rail Linear Regulator, 5-pin Micro SMD, Pb-Free; PartNumber: LP5952TLX-1.4/NOPB; Manufacturer: National Semiconductor; PackageTopMarking: XV*I A; PowerWise: Y; CompType: LDO IC; DatasheetVersion: Jun-2008; PackageVersion: revC, Feb-2005; PackageReference: TLA05Z1A; PackageDescription: Thin Micro SMD, 5 Bump (Large), 0.5mm Pitch; RoHS: Y; PinCount: 5; High-Reliability: Y; ComponentLink1Description: Manufacturer URL; ComponentLink1URL: http://www.national.com/; ComponentLink2Description: LP5952 Datasheet; ComponentLink2URL: http://www.national.com/ds/LP/LP5952.pdf; ComponentLink3Description: LP5952 Web Page; ComponentLink3URL: http://www.national.com/pf/LP/LP5952.html; ComponentLink4Description: TLA05Z1A Package Page; ComponentLink4URL: http://www.national.com/packaging/folders/tla05z1a.html
footprint TLA05Z1A (Micro SMD, 5-Leads, Body 1.34x0.96mm, Pitch 0.5mm, NSC Recommended)
pins: A1 IN (power), A3 OUT (power), B2 GND (power), C1 VBATT (in), C3 EN (in)

## LP5952TLX-1.5/NOPB
designator U?
350mA Dual Rail Linear Regulator, 5-pin Micro SMD, Pb-Free; PartNumber: LP5952TLX-1.5/NOPB; Manufacturer: National Semiconductor; PackageTopMarking: XV*I T; PowerWise: Y; CompType: LDO IC; DatasheetVersion: Jun-2008; PackageVersion: revC, Feb-2005; PackageReference: TLA05Z1A; PackageDescription: Thin Micro SMD, 5 Bump (Large), 0.5mm Pitch; RoHS: Y; PinCount: 5; High-Reliability: Y; ComponentLink1Description: Manufacturer URL; ComponentLink1URL: http://www.national.com/; ComponentLink2Description: LP5952 Datasheet; ComponentLink2URL: http://www.national.com/ds/LP/LP5952.pdf; ComponentLink3Description: LP5952 Web Page; ComponentLink3URL: http://www.national.com/pf/LP/LP5952.html; ComponentLink4Description: TLA05Z1A Package Page; ComponentLink4URL: http://www.national.com/packaging/folders/tla05z1a.html
footprint TLA05Z1A (Micro SMD, 5-Leads, Body 1.34x0.96mm, Pitch 0.5mm, NSC Recommended)
pins: A1 IN (power), A3 OUT (power), B2 GND (power), C1 VBATT (in), C3 EN (in)

## LP5952TLX-1.6/NOPB
designator U?
350mA Dual Rail Linear Regulator, 5-pin Micro SMD, Pb-Free; PartNumber: LP5952TLX-1.6/NOPB; Manufacturer: National Semiconductor; PackageTopMarking: XV*I B; PowerWise: Y; CompType: LDO IC; DatasheetVersion: Jun-2008; PackageVersion: revC, Feb-2005; PackageReference: TLA05Z1A; PackageDescription: Thin Micro SMD, 5 Bump (Large), 0.5mm Pitch; RoHS: Y; PinCount: 5; High-Reliability: Y; ComponentLink1Description: Manufacturer URL; ComponentLink1URL: http://www.national.com/; ComponentLink2Description: LP5952 Datasheet; ComponentLink2URL: http://www.national.com/ds/LP/LP5952.pdf; ComponentLink3Description: LP5952 Web Page; ComponentLink3URL: http://www.national.com/pf/LP/LP5952.html; ComponentLink4Description: TLA05Z1A Package Page; ComponentLink4URL: http://www.national.com/packaging/folders/tla05z1a.html
footprint TLA05Z1A (Micro SMD, 5-Leads, Body 1.34x0.96mm, Pitch 0.5mm, NSC Recommended)
pins: A1 IN (power), A3 OUT (power), B2 GND (power), C1 VBATT (in), C3 EN (in)

## LP5952TLX-1.8/NOPB
designator U?
350mA Dual Rail Linear Regulator, 5-pin Micro SMD, Pb-Free; PartNumber: LP5952TLX-1.8/NOPB; Manufacturer: National Semiconductor; PackageTopMarking: XV*I 8; PowerWise: Y; CompType: LDO IC; DatasheetVersion: Jun-2008; PackageVersion: revC, Feb-2005; PackageReference: TLA05Z1A; PackageDescription: Thin Micro SMD, 5 Bump (Large), 0.5mm Pitch; RoHS: Y; PinCount: 5; High-Reliability: Y; ComponentLink1Description: Manufacturer URL; ComponentLink1URL: http://www.national.com/; ComponentLink2Description: LP5952 Datasheet; ComponentLink2URL: http://www.national.com/ds/LP/LP5952.pdf; ComponentLink3Description: LP5952 Web Page; ComponentLink3URL: http://www.national.com/pf/LP/LP5952.html; ComponentLink4Description: TLA05Z1A Package Page; ComponentLink4URL: http://www.national.com/packaging/folders/tla05z1a.html
footprint TLA05Z1A (Micro SMD, 5-Leads, Body 1.34x0.96mm, Pitch 0.5mm, NSC Recommended)
pins: A1 IN (power), A3 OUT (power), B2 GND (power), C1 VBATT (in), C3 EN (in)

## LP5952TLX-2.0/NOPB
designator U?
350mA Dual Rail Linear Regulator, 5-pin Micro SMD, Pb-Free; PartNumber: LP5952TLX-2.0/NOPB; Manufacturer: National Semiconductor; PackageTopMarking: XV*I 5; PowerWise: Y; CompType: LDO IC; DatasheetVersion: Jun-2008; PackageVersion: revC, Feb-2005; PackageReference: TLA05Z1A; PackageDescription: Thin Micro SMD, 5 Bump (Large), 0.5mm Pitch; RoHS: Y; PinCount: 5; High-Reliability: Y; ComponentLink1Description: Manufacturer URL; ComponentLink1URL: http://www.national.com/; ComponentLink2Description: LP5952 Datasheet; ComponentLink2URL: http://www.national.com/ds/LP/LP5952.pdf; ComponentLink3Description: LP5952 Web Page; ComponentLink3URL: http://www.national.com/pf/LP/LP5952.html; ComponentLink4Description: TLA05Z1A Package Page; ComponentLink4URL: http://www.national.com/packaging/folders/tla05z1a.html
footprint TLA05Z1A (Micro SMD, 5-Leads, Body 1.34x0.96mm, Pitch 0.5mm, NSC Recommended)
pins: A1 IN (power), A3 OUT (power), B2 GND (power), C1 VBATT (in), C3 EN (in)

## LP5990TM-1.2
designator U?
Micropower 200mA Low Dropout Voltage Regulator, 4-pin Micro SMD; PartNumber: LP5990TM-1.2; Manufacturer: National Semiconductor; PackageTopMarking: X*I; PowerWise: N; CompType: LDO IC; High-Reliability: Y; DatasheetVersion: Dec-2007; PackageVersion: revA, 2007; PackageReference: TMD04CEA; PackageDescription: Thin Micro SMD, 4 Bump, 0.4mm Pitch; RoHS: Y; PinCount: 4; ComponentLink1Description: Manufacturer URL; ComponentLink1URL: http://www.national.com/; ComponentLink2Description: LP5990 Datasheet; ComponentLink2URL: http://www.national.com/ds/LP/LP5990.pdf; ComponentLink3Description: LP5990 Web Page; ComponentLink3URL: http://www.national.com/mpf/LP/LP5990.html; ComponentLink4Description: TMD04CEA Package Page; ComponentLink4URL: http://www.national.com/packaging/folders/tmd04cea.html
footprint TMD04CEA (Micro SMD, 4-Leads, Body 0.92x0.87mm, Pitch 0.4mm, NSC Recommended)
pins: A1 GND (power), A2 EN (in), B1 OUT (power), B2 IN (power)

## LP5990TM-1.2/NOPB
designator U?
Micropower 200mA Low Dropout Voltage Regulator, 4-pin Micro SMD, Pb-Free; PartNumber: LP5990TM-1.2/NOPB; Manufacturer: National Semiconductor; PackageTopMarking: X*I; PowerWise: N; CompType: LDO IC; High-Reliability: Y; DatasheetVersion: Dec-2007; PackageVersion: revA, 2007; PackageReference: TMD04CEA; PackageDescription: Thin Micro SMD, 4 Bump, 0.4mm Pitch; RoHS: Y; PinCount: 4; ComponentLink1Description: Manufacturer URL; ComponentLink1URL: http://www.national.com/; ComponentLink2Description: LP5990 Datasheet; ComponentLink2URL: http://www.national.com/ds/LP/LP5990.pdf; ComponentLink3Description: LP5990 Web Page; ComponentLink3URL: http://www.national.com/pf/LP/LP5990.html; ComponentLink4Description: TMD04CEA Package Page; ComponentLink4URL: http://www.national.com/packaging/folders/tmd04cea.html
footprint TMD04CEA (Micro SMD, 4-Leads, Body 0.92x0.87mm, Pitch 0.4mm, NSC Recommended)
pins: A1 GND (power), A2 EN (in), B1 OUT (power), B2 IN (power)

## LP5990TM-1.3
designator U?
Micropower 200mA Low Dropout Voltage Regulator, 4-pin Micro SMD; PartNumber: LP5990TM-1.3; Manufacturer: National Semiconductor; PackageTopMarking: X*I; PowerWise: N; CompType: LDO IC; High-Reliability: Y; DatasheetVersion: Dec-2007; PackageVersion: revA, 2007; PackageReference: TMD04CEA; PackageDescription: Thin Micro SMD, 4 Bump, 0.4mm Pitch; RoHS: Y; PinCount: 4; ComponentLink1Description: Manufacturer URL; ComponentLink1URL: http://www.national.com/; ComponentLink2Description: LP5990 Datasheet; ComponentLink2URL: http://www.national.com/ds/LP/LP5990.pdf; ComponentLink3Description: LP5990 Web Page; ComponentLink3URL: http://www.national.com/mpf/LP/LP5990.html; ComponentLink4Description: TMD04CEA Package Page; ComponentLink4URL: http://www.national.com/packaging/folders/tmd04cea.html
footprint TMD04CEA (Micro SMD, 4-Leads, Body 0.92x0.87mm, Pitch 0.4mm, NSC Recommended)
pins: A1 GND (power), A2 EN (in), B1 OUT (power), B2 IN (power)

## LP5990TM-1.3/NOPB
designator U?
Micropower 200mA Low Dropout Voltage Regulator, 4-pin Micro SMD, Pb-Free; PartNumber: LP5990TM-1.3/NOPB; Manufacturer: National Semiconductor; PackageTopMarking: X*I; PowerWise: N; CompType: LDO IC; High-Reliability: Y; DatasheetVersion: Dec-2007; PackageVersion: revA, 2007; PackageReference: TMD04CEA; PackageDescription: Thin Micro SMD, 4 Bump, 0.4mm Pitch; RoHS: Y; PinCount: 4; ComponentLink1Description: Manufacturer URL; ComponentLink1URL: http://www.national.com/; ComponentLink2Description: LP5990 Datasheet; ComponentLink2URL: http://www.national.com/ds/LP/LP5990.pdf; ComponentLink3Description: LP5990 Web Page; ComponentLink3URL: http://www.national.com/pf/LP/LP5990.html; ComponentLink4Description: TMD04CEA Package Page; ComponentLink4URL: http://www.national.com/packaging/folders/tmd04cea.html
footprint TMD04CEA (Micro SMD, 4-Leads, Body 0.92x0.87mm, Pitch 0.4mm, NSC Recommended)
pins: A1 GND (power), A2 EN (in), B1 OUT (power), B2 IN (power)

## LP5990TM-1.8
designator U?
Micropower 200mA Low Dropout Voltage Regulator, 4-pin Micro SMD; PartNumber: LP5990TM-1.8; Manufacturer: National Semiconductor; PackageTopMarking: X*I; PowerWise: N; CompType: LDO IC; High-Reliability: Y; DatasheetVersion: Dec-2007; PackageVersion: revA, 2007; PackageReference: TMD04CEA; PackageDescription: Thin Micro SMD, 4 Bump, 0.4mm Pitch; RoHS: Y; PinCount: 4; ComponentLink1Description: Manufacturer URL; ComponentLink1URL: http://www.national.com/; ComponentLink2Description: LP5990 Datasheet; ComponentLink2URL: http://www.national.com/ds/LP/LP5990.pdf; ComponentLink3Description: LP5990 Web Page; ComponentLink3URL: http://www.national.com/mpf/LP/LP5990.html; ComponentLink4Description: TMD04CEA Package Page; ComponentLink4URL: http://www.national.com/packaging/folders/tmd04cea.html
footprint TMD04CEA (Micro SMD, 4-Leads, Body 0.92x0.87mm, Pitch 0.4mm, NSC Recommended)
pins: A1 GND (power), A2 EN (in), B1 OUT (power), B2 IN (power)

## LP5990TM-1.8/NOPB
designator U?
Micropower 200mA Low Dropout Voltage Regulator, 4-pin Micro SMD, Pb-Free; PartNumber: LP5990TM-1.8/NOPB; Manufacturer: National Semiconductor; PackageTopMarking: X*I; PowerWise: N; CompType: LDO IC; High-Reliability: Y; DatasheetVersion: Dec-2007; PackageVersion: revA, 2007; PackageReference: TMD04CEA; PackageDescription: Thin Micro SMD, 4 Bump, 0.4mm Pitch; RoHS: Y; PinCount: 4; ComponentLink1Description: Manufacturer URL; ComponentLink1URL: http://www.national.com/; ComponentLink2Description: LP5990 Datasheet; ComponentLink2URL: http://www.national.com/ds/LP/LP5990.pdf; ComponentLink3Description: LP5990 Web Page; ComponentLink3URL: http://www.national.com/pf/LP/LP5990.html; ComponentLink4Description: TMD04CEA Package Page; ComponentLink4URL: http://www.national.com/packaging/folders/tmd04cea.html
footprint TMD04CEA (Micro SMD, 4-Leads, Body 0.92x0.87mm, Pitch 0.4mm, NSC Recommended)
pins: A1 GND (power), A2 EN (in), B1 OUT (power), B2 IN (power)